# EAGLE library part ADAFRUIT_POWERBOOST1000_TH (library brett)
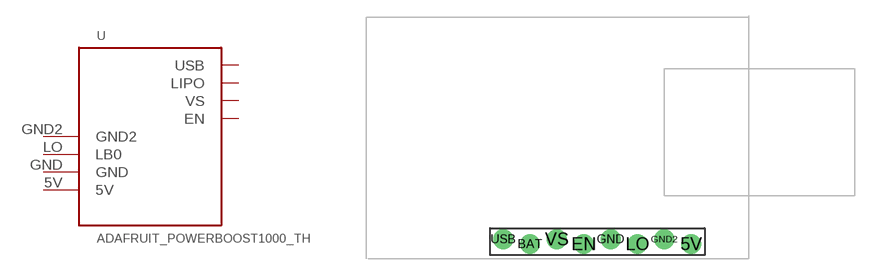
[diagram p5: symbol with the pads of ADAFRUIT_POWERBOOST1000_TH; footprint ADAFRUIT_POWERBOOST1000_TH]

Designator prefix -

## ADAFRUIT_POWERBOOST1000_TH  [ADAFRUIT_POWERBOOST1000_TH]
5V  5V
BAT  LIPO
EN  EN  pwr
GND  GND
GND2  GND2
LO  LB0
USB  USB  pwr
VS  VS

## Footprint ADAFRUIT_POWERBOOST1000_TH (pad centres in mm)
Plated Through Hole -8 Pin Locking Female Headers Holes are offset 0.005" to hold pins in place during soldering. Specifications: Pin count:8 Pin pitch:0.1" Datasheet referenced for footprint <https://cdn.sparkfun.com/datasheets/Prototyping/SP-140520-XX-001.pdf> Example device(s): CONN_08
drill 1.016 pad 1.88: 5V 14.018,-11.287; BAT -1.222,-11.287; EN 3.858,-11.287; GND 6.398,-10.83; GND2 11.478,-10.83; LO 8.938,-11.287; USB -3.762,-10.83; VS 1.318,-10.83